# Altium schematic symbol library IR3895MTR1PBF.SchLib: 1 symbol
Pins are listed as number, name and electrical type; pins without a type are passive.

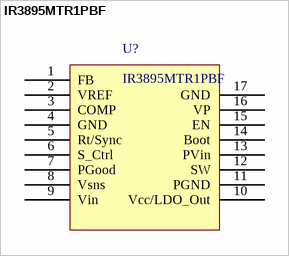
[diagram p0: symbol IR3895MTR1PBF]

## IR3895MTR1PBF
designator U?
pins: 1 FB, 2 VREF, 3 COMP, 4 GND, 5 Rt/Sync, 6 S_Ctrl, 7 PGood, 8 Vsns, 9 Vin, 10 Vcc/LDO_Out, 11 PGND, 12 SW, 13 PVin, 14 Boot, 15 EN, 16 VP, 17 GND (power)
1 alternate drawing of the same symbol